# EAGLE library part EASEL_EDGE (library Easel_Edge_Connector)
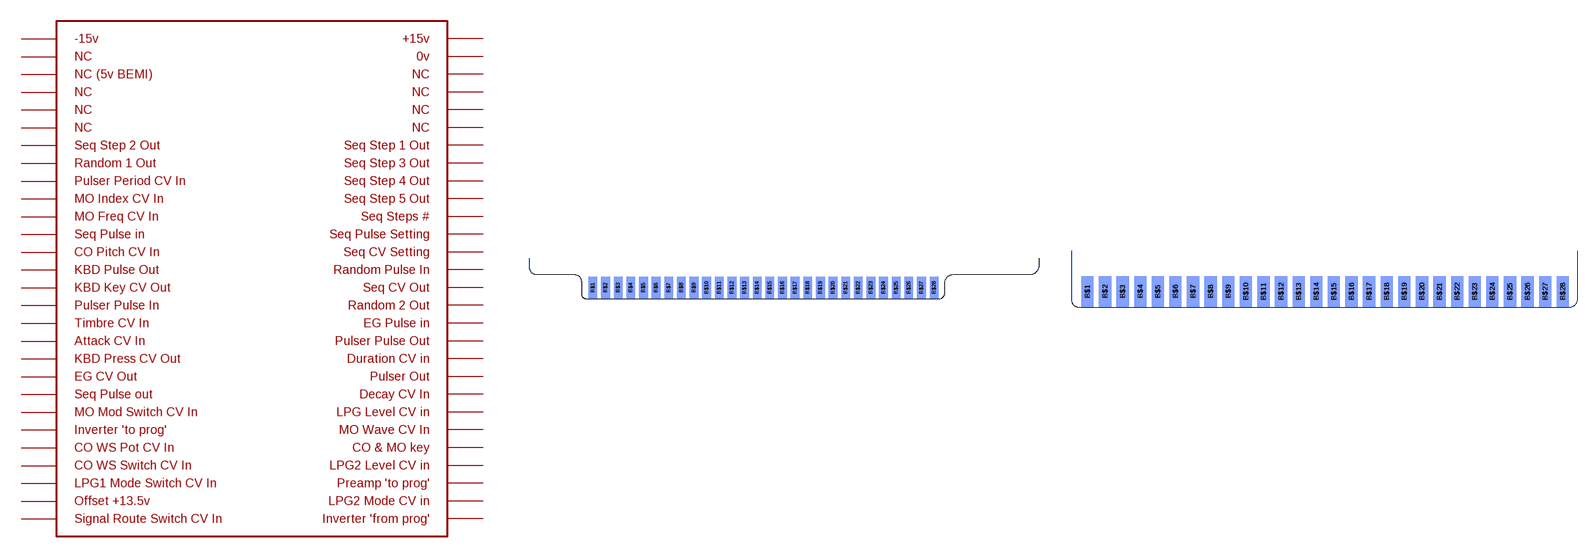
[diagram p0: symbol with the pads of EASEL_EDGE; footprints EASEL_EDGE, EASEL_EDGE_SMALL]

Designator prefix -

## EASEL_EDGEFULL  [EASEL_EDGE]
B$1  B$1
B$2  B$2
B$3  B$3
B$4  B$4
B$5  B$5
B$6  B$6
B$7  B$7
B$8  B$8
B$9  B$9
B$10  B$10
B$11  B$11
B$12  B$12
B$13  B$13
B$14  B$14
B$15  B$15
B$16  B$16
B$17  B$17
B$18  B$18
B$19  B$19
B$20  B$20
B$21  B$21
B$22  B$22
B$23  B$23
B$24  B$24
B$25  B$25
B$26  B$26
B$27  B$27
B$28  B$28
F$1  F$1
F$2  F$2
F$3  F$3
F$4  F$4
F$5  F$5
F$6  F$6
F$7  F$7
F$8  F$8
F$9  F$9
F$10  F$10
F$11  F$11
F$12  F$12
F$13  F$13
F$14  F$14
F$15  F$15
F$16  F$16
F$17  F$17
F$18  F$18
F$19  F$19
F$20  F$20
F$21  F$21
F$22  F$22
F$23  F$23
F$24  F$24
F$25  F$25
F$26  F$26
F$27  F$27
F$28  F$28

## EASEL_EDGESMALL  [EASEL_EDGE_SMALL]
Pads as for EASEL_EDGE

## EASEL_EDGERIGHT_ALIGN  [EASEL_EDGE_RIGHT_ALIGN]
Pads as for EASEL_EDGE

## Footprint EASEL_EDGE (pad centres in mm)
smd 2.743 x 6.985 bottom: B$1 20.003,3.493; B$2 23.965,3.493; B$3 27.927,3.493; B$4 31.89,3.493; B$5 35.852,3.493; B$6 39.815,3.493; B$7 43.777,3.493; B$8 47.739,3.493; B$9 51.702,3.493; B$10 55.664,3.493; B$11 59.627,3.493; B$12 63.589,3.493; B$13 67.551,3.493; B$14 71.514,3.493; B$15 75.476,3.493; B$16 79.439,3.493; B$17 83.401,3.493; B$18 87.363,3.493; B$19 91.326,3.493; B$20 95.288,3.493; B$21 99.251,3.493; B$22 103.213,3.493; B$23 107.175,3.493; B$24 111.138,3.493; B$25 115.1,3.493; B$26 119.062,3.493; B$27 123.025,3.493; B$28 126.987,3.493
smd 2.743 x 6.985: F$1 20.003,3.493; F$2 23.965,3.493; F$3 27.927,3.493; F$4 31.89,3.493; F$5 35.852,3.493; F$6 39.815,3.493; F$7 43.777,3.493; F$8 47.739,3.493; F$9 51.702,3.493; F$10 55.664,3.493; F$11 59.627,3.493; F$12 63.589,3.493; F$13 67.551,3.493; F$14 71.514,3.493; F$15 75.476,3.493; F$16 79.439,3.493; F$17 83.401,3.493; F$18 87.363,3.493; F$19 91.326,3.493; F$20 95.288,3.493; F$21 99.251,3.493; F$22 103.213,3.493; F$23 107.175,3.493; F$24 111.138,3.493; F$25 115.1,3.493; F$26 119.062,3.493; F$27 123.025,3.493; F$28 126.987,3.493

## Footprint EASEL_EDGE_SMALL (pad centres in mm)
smd 2.743 x 6.985 bottom: B$1 20.003,3.493; B$2 23.965,3.493; B$3 27.927,3.493; B$4 31.89,3.493; B$5 35.852,3.493; B$6 39.815,3.493; B$7 43.777,3.493; B$8 47.739,3.493; B$9 51.702,3.493; B$10 55.664,3.493; B$11 59.627,3.493; B$12 63.589,3.493; B$13 67.551,3.493; B$14 71.514,3.493; B$15 75.476,3.493; B$16 79.439,3.493; B$17 83.401,3.493; B$18 87.363,3.493; B$19 91.326,3.493; B$20 95.288,3.493; B$21 99.251,3.493; B$22 103.213,3.493; B$23 107.175,3.493; B$24 111.138,3.493; B$25 115.1,3.493; B$26 119.062,3.493; B$27 123.025,3.493; B$28 126.987,3.493
smd 2.743 x 6.985: F$1 20.003,3.493; F$2 23.965,3.493; F$3 27.927,3.493; F$4 31.89,3.493; F$5 35.852,3.493; F$6 39.815,3.493; F$7 43.777,3.493; F$8 47.739,3.493; F$9 51.702,3.493; F$10 55.664,3.493; F$11 59.627,3.493; F$12 63.589,3.493; F$13 67.551,3.493; F$14 71.514,3.493; F$15 75.476,3.493; F$16 79.439,3.493; F$17 83.401,3.493; F$18 87.363,3.493; F$19 91.326,3.493; F$20 95.288,3.493; F$21 99.251,3.493; F$22 103.213,3.493; F$23 107.175,3.493; F$24 111.138,3.493; F$25 115.1,3.493; F$26 119.062,3.493; F$27 123.025,3.493; F$28 126.987,3.493

## Footprint EASEL_EDGE_RIGHT_ALIGN (pad centres in mm)
smd 2.743 x 6.985 bottom: B$1 35.002,3.493; B$2 38.965,3.493; B$3 42.927,3.493; B$4 46.89,3.493; B$5 50.852,3.493; B$6 54.815,3.493; B$7 58.777,3.493; B$8 62.739,3.493; B$9 66.702,3.493; B$10 70.664,3.493; B$11 74.626,3.493; B$12 78.589,3.493; B$13 82.551,3.493; B$14 86.514,3.493; B$15 90.476,3.493; B$16 94.439,3.493; B$17 98.401,3.493; B$18 102.363,3.493; B$19 106.326,3.493; B$20 110.288,3.493; B$21 114.251,3.493; B$22 118.213,3.493; B$23 122.175,3.493; B$24 126.138,3.493; B$25 130.1,3.493; B$26 134.062,3.493; B$27 138.025,3.493; B$28 141.987,3.493
smd 2.743 x 6.985: F$1 35.002,3.493; F$2 38.965,3.493; F$3 42.927,3.493; F$4 46.89,3.493; F$5 50.852,3.493; F$6 54.815,3.493; F$7 58.777,3.493; F$8 62.739,3.493; F$9 66.702,3.493; F$10 70.664,3.493; F$11 74.626,3.493; F$12 78.589,3.493; F$13 82.551,3.493; F$14 86.514,3.493; F$15 90.476,3.493; F$16 94.439,3.493; F$17 98.401,3.493; F$18 102.363,3.493; F$19 106.326,3.493; F$20 110.288,3.493; F$21 114.251,3.493; F$22 118.213,3.493; F$23 122.175,3.493; F$24 126.138,3.493; F$25 130.1,3.493; F$26 134.062,3.493; F$27 138.025,3.493; F$28 141.987,3.493